# EAGLE library part BAV70S (library Poe)
High-speed SWITCHING DIODES. See page 2 of PD70210 datasheet: https://www.microsemi.com/document-portal/doc_view/134745-pd70210-pd70210a-pd70210al-datasheet
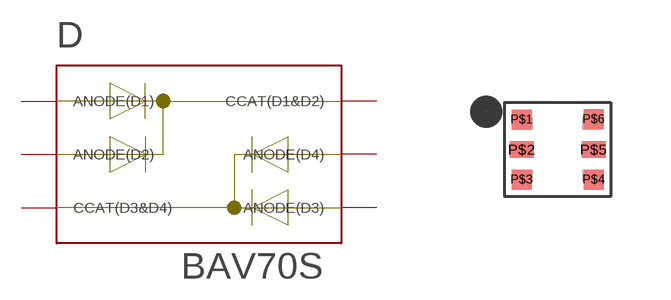
[diagram p11: symbol with the pads of SOT363/SC-88; footprint SOT363/SC-88]

Designator prefix D

## BAV70S  [SOT363/SC-88]
P$1  ANODE(D1)
P$2  ANODE(D2)
P$3  CCAT(D3&D4)
P$4  ANODE(D3)
P$5  ANODE(D4)
P$6  CCAT(D1&D2)

## Footprint SOT363/SC-88 (pad centres in mm)
Reflow soldering footprint BAV70S (SOT363/SC-88).
smd 0.5 x 0.5: P$1 -0.9,0.75; P$3 -0.9,-0.75; P$4 0.9,-0.75; P$6 0.9,0.76
smd 0.6 x 0.4: P$2 -0.9,0; P$5 0.9,0